# Altium footprint library GSM Module.PcbLib: 6 footprints
Each footprint in its own frame and in the unit in brackets; x right, y up, seen from the top. Pads: shape width x height; smd on the part's side, far side on the other; paste and mask are expansions set on the pad; w line width, h text height; cw(c..) or ccw(c..) is an arc to the next point about the centre after c.
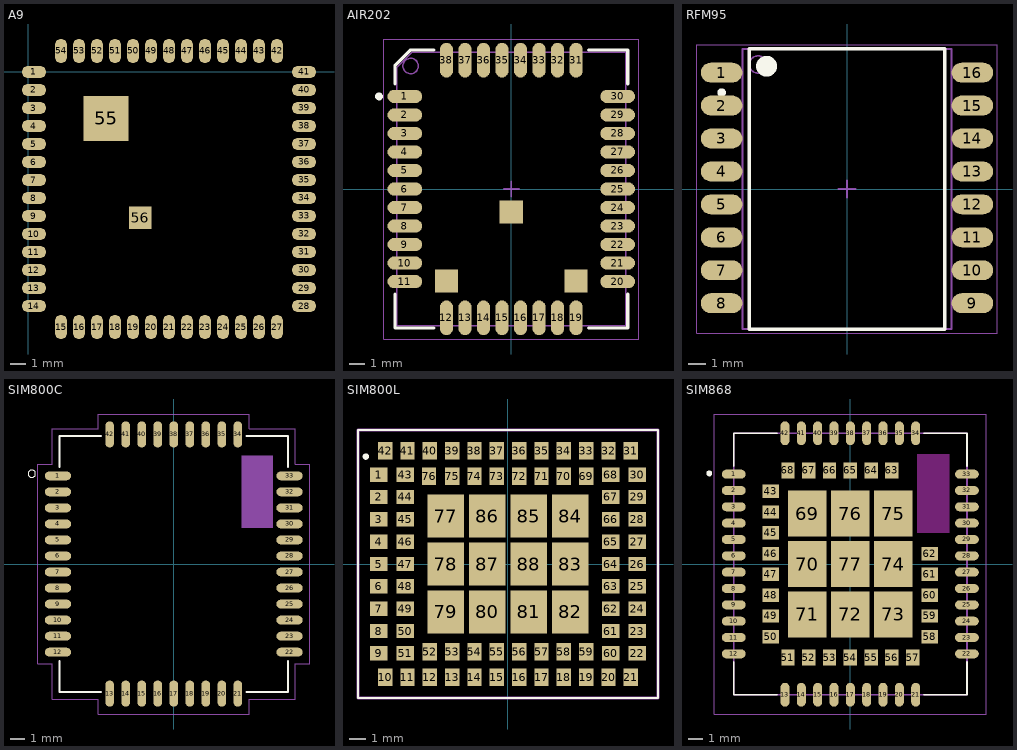
[diagram p0: the footprints below, top view; thin cyan lines are the x and y axes]

## A9 [mm]
pads (56):
  oval 1.6x0.8 smd: 1(0.4,0) 2(0.4,-1.2) 3(0.4,-2.4) 4(0.4,-3.6) 5(0.4,-4.8) 6(0.4,-6) 7(0.4,-7.2) 8(0.4,-8.4) 9(0.4,-9.6) 10(0.4,-10.8) 11(0.4,-12) 12(0.4,-13.2) 13(0.4,-14.4) 14(0.4,-15.6) 28(18.4,-15.6) 29(18.4,-14.4) 30(18.4,-13.2) 31(18.4,-12) 32(18.4,-10.8) 33(18.4,-9.6) 34(18.4,-8.4) 35(18.4,-7.2) 36(18.4,-6) 37(18.4,-4.8) 38(18.4,-3.6) 39(18.4,-2.4) 40(18.4,-1.2) 41(18.4,0)
  oval 0.8x1.6 smd: 15(2.2,-17) 16(3.4,-17) 17(4.6,-17) 18(5.8,-17) 19(7,-17) 20(8.2,-17) 21(9.4,-17) 22(10.6,-17) 23(11.8,-17) 24(13,-17) 25(14.2,-17) 26(15.4,-17) 27(16.6,-17) 42(16.6,1.4) 43(15.4,1.4) 44(14.2,1.4) 45(13,1.4) 46(11.8,1.4) 47(10.6,1.4) 48(9.4,1.4) 49(8.2,1.4) 50(7,1.4) 51(5.8,1.4) 52(4.6,1.4) 53(3.4,1.4) 54(2.2,1.4)
  rect 3x3 smd: 55(5.2,-3.1)
  rect 1.5x1.5 smd: 56(7.5,-9.7)
3D body "a9.step": height 1.8, standoff -0.16, extent 0,-17.4 18.8,1.8

## AIR202 [mm]
height 2
pads (41):
  oval 2.25x0.85 smd: 1(-6.9,6) 2(-6.9,4.8) 3(-6.9,3.6) 4(-6.9,2.4) 5(-6.9,1.2) 6(-6.9,0) 7(-6.9,-1.2) 8(-6.9,-2.4) 9(-6.9,-3.6) 10(-6.9,-4.8) 11(-6.9,-6) 20(6.9,-6) 21(6.9,-4.8) 22(6.9,-3.6) 23(6.9,-2.4) 24(6.9,-1.2) 25(6.9,0) 26(6.9,1.2) 27(6.9,2.4) 28(6.9,3.6) 29(6.9,4.8) 30(6.9,6)
  oval 0.85x2.25 smd: 12(-4.2,-8.35) 13(-3,-8.35) 14(-1.8,-8.35) 15(-0.6,-8.35) 16(0.6,-8.35) 17(1.8,-8.35) 18(3,-8.35) 19(4.2,-8.35) 31(4.2,8.35) 32(3,8.35) 33(1.8,8.35) 34(0.6,8.35) 35(-0.6,8.35) 36(-1.8,8.35) 37(-3,8.35) 38(-4.2,8.35)
  rect 1.5x1.5 smd: ""(-4.191,-5.969) ""(0,-1.5) ""(4.191,-5.969)
Top Overlay:
  circle w0.25: c-8.575,6 r0.125
  lines w0.2: -7.55,-6.825 -7.55,-9 -5.025,-9 ; -7.55,6.825 -7.55,8 -6.55,9 -5.025,9 ; 5.025,-9 7.55,-9 7.55,-6.825 ; 5.025,9 7.55,9 7.55,6.825
Mechanical 13:
  circle w0.1: c-6.525,7.975 r0.5
  lines w0.1: -7.425,-8.875 -7.425,7.875 -6.425,8.875 7.425,8.875 7.425,-8.875 -7.425,-8.875
Mechanical 15:
  lines w0.05: -8.275,-9.725 -8.275,9.725 8.275,9.725 8.275,-9.725 -8.275,-9.725
  lines w0.1: -0.5,0 0.5,0 ; 0,-0.5 0,0.5
3D body "LCC127P762X762X223-16N.step": height 2, standoff 0, extent -7.45,-8.9 7.45,8.9

## RFM95 [mm] "RF Module"
height 2.65
pads (16):
  oval 2.4x1.15 smd: 1(-7.25,6.731) 2(-7.25,4.826) 3(-7.25,2.921) 4(-7.25,1.016) 5(-7.25,-0.889) 6(-7.25,-2.794) 7(-7.25,-4.699) 8(-7.25,-6.604) 9(7.25,-6.604) 10(7.25,-4.699) 11(7.25,-2.794) 12(7.25,-0.889) 13(7.25,1.016) 14(7.25,2.921) 15(7.25,4.826) 16(7.25,6.731)
Top Overlay:
  circle w0.25: c-7.25,5.57 r0.125
  circle w0.6: c-4.65,7.1 r0.3
  lines w0.2: -5.65,-8.1 -5.65,8.1 5.65,8.1 5.65,-8.1 -5.65,-8.1
Mechanical 13:
  circle w0.1: c-5.15,7.2 r0.5
  lines w0.1: -6.05,-8.1 -6.05,8.1 6.05,8.1 6.05,-8.1 -6.05,-8.1
Mechanical 15:
  lines w0.05: -8.675,-8.35 -8.675,8.35 8.675,8.35 8.675,-8.35 -8.675,-8.35
  lines w0.1: -0.5,0 0.5,0 ; 0,-0.5 0,0.5

## SIM800C [mm]
pads (42):
  oval 1.8x0.6 smd: 1(-7.95,6.05) 2(-7.95,4.95) 3(-7.95,3.85) 4(-7.95,2.75) 5(-7.95,1.65) 6(-7.95,0.55) 7(-7.95,-0.55) 8(-7.95,-1.65) 9(-7.95,-2.75) 10(-7.95,-3.85) 11(-7.95,-4.95) 12(-7.95,-6.05) 22(7.95,-6.05) 23(7.95,-4.95) 24(7.95,-3.85) 25(7.95,-2.75) 26(7.95,-1.65) 27(7.95,-0.55) 28(7.95,0.55) 29(7.95,1.65) 30(7.95,2.75) 31(7.95,3.85) 32(7.95,4.95) 33(7.95,6.05)
  oval 0.6x1.8 smd: 13(-4.4,-8.9) 14(-3.3,-8.9) 15(-2.2,-8.9) 16(-1.1,-8.9) 17(0,-8.9) 18(1.1,-8.9) 19(2.2,-8.9) 20(3.3,-8.9) 21(4.4,-8.9) 34(4.4,8.9) 35(3.3,8.9) 36(2.2,8.9) 37(1.1,8.9) 38(0,8.9) 39(-1.1,8.9) 40(-2.2,8.9) 41(-3.3,8.9) 42(-4.4,8.9)
Top Overlay:
  circle w0: c-9.75,6.2 r0.254
  lines w0.127: -7.85,-6.65 -7.85,-8.8 -5,-8.8 ; -7.85,6.65 -7.85,8.8 -5,8.8 ; 5,-8.8 7.85,-8.8 7.85,-6.65 ; 5,8.8 7.85,8.8 7.85,6.65
Mechanical 1:
  region: 4.656,7.43 6.8,7.43 6.8,2.483 4.656,2.483
Mechanical 4:
  region: 4.658,7.43 6.8,7.43 6.8,2.484 4.658,2.484
  lines w0.05: -9.35,-6.85 -9.35,6.85 -8.35,6.85 -8.35,9.3 -5.2,9.3 -5.2,10.3 5.2,10.3 5.2,9.3 8.35,9.3 8.35,6.85 9.35,6.85 9.35,-6.85 8.35,-6.85 8.35,-9.3 5.2,-9.3 5.2,-10.3 -5.2,-10.3 -5.2,-9.3 -8.35,-9.3 -8.35,-6.85 -9.35,-6.85
3D body "SIM800C-1.STEP": height 2.47, standoff 0.13, extent -7.877,-8.8 7.823,8.8

## SIM800L [mm]
pads (88):
  rect 1.1x0.9 smd: 1(-8.081,5.6) 2(-8.081,4.2) 3(-8.081,2.8) 4(-8.081,1.4) 5(-8.081,0) 6(-8.081,-1.4) 7(-8.081,-2.8) 8(-8.081,-4.2) 9(-8.081,-5.6) 22(8.119,-5.6) 23(8.119,-4.2) 24(8.119,-2.8) 25(8.119,-1.4) 26(8.119,0) 27(8.119,1.4) 28(8.119,2.8) 29(8.119,4.2) 30(8.119,5.6) 43(-6.431,5.6) 44(-6.431,4.2) 45(-6.431,2.8) 46(-6.431,1.4) 47(-6.431,0) 48(-6.431,-1.4) 49(-6.431,-2.8) 50(-6.431,-4.2) 51(-6.431,-5.6) 60(6.469,-5.6) 61(6.469,-4.2) 62(6.469,-2.8) 63(6.469,-1.4) 64(6.469,0) 65(6.469,1.4) 66(6.469,2.8) 67(6.469,4.2) 68(6.469,5.6)
  rect 0.9x1.1 smd: 10(-7.681,-7.1) 11(-6.281,-7.1) 12(-4.881,-7.1) 13(-3.481,-7.1) 14(-2.081,-7.1) 15(-0.681,-7.1) 16(0.719,-7.1) 17(2.119,-7.1) 18(3.519,-7.1) 19(4.919,-7.1) 20(6.319,-7.1) 21(7.719,-7.1) 31(7.719,7.1) 32(6.319,7.1) 33(4.919,7.1) 34(3.519,7.1) 35(2.119,7.1) 36(0.719,7.1) 37(-0.681,7.1) 38(-2.081,7.1) 39(-3.481,7.1) 40(-4.881,7.1) 41(-6.281,7.1) 42(-7.681,7.1) 52(-4.881,-5.5) 53(-3.481,-5.5) 54(-2.081,-5.5) 55(-0.681,-5.5) 56(0.719,-5.5) 57(2.119,-5.5) 58(3.519,-5.5) 59(4.919,-5.5) 69(4.919,5.5) 70(3.519,5.5) 71(2.119,5.5) 72(0.719,5.5) 73(-0.681,5.5) 74(-2.081,5.5) 75(-3.481,5.5) 76(-4.931,5.5)
  rect 2.3x2.7 smd: 77(-3.881,3) 78(-3.881,0) 79(-3.881,-3) 80(-1.281,-3) 81(1.319,-3) 82(3.919,-3) 83(3.919,0) 84(3.919,3) 85(1.319,3) 86(-1.281,3) 87(-1.281,0) 88(1.319,0)
Top Overlay:
  lines w0.1: -9.381,-8.4 -9.381,8.4 9.419,8.4 9.419,-8.4 -9.381,-8.4
  lines w0.2: -8.89,6.631 cw(c-8.89,6.731) -8.89,6.831 cw(c-8.89,6.731) -8.89,6.631
Mechanical 15:
  lines w0.2: -9.381,-8.4 -9.381,8.4 9.419,8.4 9.419,-8.4 -9.381,-8.4
3D body: height 2, standoff 0.01, extent -9.398,-8.382 9.398,8.382

## SIM868 [mm]
pads (77):
  oval 1.6x0.6 smd: 1(-7.85,6.05) 2(-7.85,4.95) 3(-7.85,3.85) 4(-7.85,2.75) 5(-7.85,1.65) 6(-7.85,0.55) 7(-7.85,-0.55) 8(-7.85,-1.65) 9(-7.85,-2.75) 10(-7.85,-3.85) 11(-7.85,-4.95) 12(-7.85,-6.05) 22(7.85,-6.05) 23(7.85,-4.95) 24(7.85,-3.85) 25(7.85,-2.75) 26(7.85,-1.65) 27(7.85,-0.55) 28(7.85,0.55) 29(7.85,1.65) 30(7.85,2.75) 31(7.85,3.85) 32(7.85,4.95) 33(7.85,6.05)
  oval 0.6x1.6 smd: 13(-4.4,-8.8) 14(-3.3,-8.8) 15(-2.2,-8.8) 16(-1.1,-8.8) 17(0,-8.8) 18(1.1,-8.8) 19(2.2,-8.8) 20(3.3,-8.8) 21(4.4,-8.8) 34(4.4,8.8) 35(3.3,8.8) 36(2.2,8.8) 37(1.1,8.8) 38(0,8.8) 39(-1.1,8.8) 40(-2.2,8.8) 41(-3.3,8.8) 42(-4.4,8.8)
  rect 1.1x0.9 smd: 43(-5.35,4.9) 44(-5.35,3.5) 45(-5.35,2.1) 46(-5.35,0.7) 47(-5.35,-0.7) 48(-5.35,-2.1) 49(-5.35,-3.5) 50(-5.35,-4.9) 58(5.35,-4.9) 59(5.35,-3.5) 60(5.35,-2.1) 61(5.35,-0.7) 62(5.35,0.7)
  rect 0.9x1.1 smd: 51(-4.2,-6.3) 52(-2.8,-6.3) 53(-1.4,-6.3) 54(0,-6.3) 55(1.4,-6.3) 56(2.8,-6.3) 57(4.2,-6.3) 63(2.8,6.3) 64(1.4,6.3) 65(0,6.3) 66(-1.4,6.3) 67(-2.8,6.3) 68(-4.2,6.3)
  rect 2.6x3.1 smd: 69(-2.9,3.4) 70(-2.9,0) 71(-2.9,-3.4) 72(0,-3.4) 73(2.9,-3.4) 74(2.9,0) 75(2.9,3.4) 76(0,3.4) 77(0,0)
Top Overlay:
  circle w0.2: c-9.5,6.1 r0.1
  lines w0.127: -7.85,-6.6 -7.85,-8.8 -4.95,-8.8 ; -7.85,6.6 -7.85,8.8 -4.95,8.8 ; 4.95,-8.8 7.85,-8.8 7.85,-6.6 ; 4.95,8.8 7.85,8.8 7.85,6.6
Top Paste:
  drawing of 140 lines, arcs and shapes, not listed
Keep-Out Layer:
  region: 4.508,7.4 6.65,7.4 6.65,2.104 4.508,2.104
  region: 4.504,7.4 6.65,7.4 6.65,2.102 4.504,2.102
  region: 4.502,7.4 6.65,7.4 6.65,2.101 4.502,2.101
  region: 4.508,7.4 6.65,7.4 6.65,2.104 4.508,2.104
  region: 4.504,7.4 6.65,7.4 6.65,2.102 4.504,2.102
  region: 4.502,7.4 6.65,7.4 6.65,2.101 4.502,2.101
  region: 4.508,7.4 6.65,7.4 6.65,2.104 4.508,2.104
  region: 4.504,7.4 6.65,7.4 6.65,2.102 4.504,2.102
  region: 4.502,7.4 6.65,7.4 6.65,2.101 4.502,2.101
Mechanical 4:
  lines w0.127: -7.85,-8.8 -7.85,8.8 ; -7.85,-8.8 7.85,-8.8 ; -7.85,-8.8 -7.85,8.8 ; -7.85,-8.8 7.85,-8.8 ; -7.85,8.8 7.85,8.8 ; -7.85,8.8 7.85,8.8 ; 7.85,-8.8 7.85,8.8 ; 7.85,-8.8 7.85,8.8
Mechanical 16:
  lines w0.05: -9.15,-10.1 -9.15,10.1 9.15,10.1 9.15,-10.1 -9.15,-10.1